# EAGLE library part SSW-115-02-S-D (library con-samtec)
THROUGH-HOLE .025" SQ POST SOCKET Source: Samtec SSW.pdf
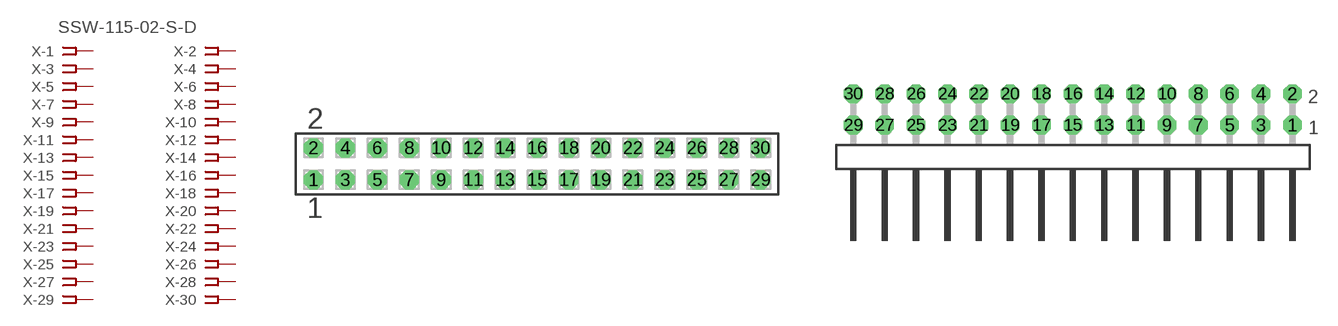
[diagram p184: symbol with the pads of SSW-115-02-S-D; footprints SSW-115-02-S-D, TSW-115-02-S-D-RA]

Designator prefix X; gates -1=FPINV -2=FPIN -3=FPIN -4=FPIN -5=FPIN -6=FPIN -7=FPIN -8=FPIN -9=FPIN -10=FPIN -11=FPIN -12=FPIN -13=FPIN -14=FPIN -15=FPIN -16=FPIN -17=FPIN -18=FPIN -19=FPIN -20=FPIN -21=FPIN -22=FPIN -23=FPIN -24=FPIN -25=FPIN -26=FPIN -27=FPIN -28=FPIN -29=FPIN -30=FPIN

## SSW-115-02-S-D (MPN: SSW-115-02-S-D; OC_FARNELL: unknown; OC_NEWARK: 11P9563)  [SSW-115-02-S-D]
1  -1:1  pas
2  -2:1  pas
3  -3:1  pas
4  -4:1  pas
5  -5:1  pas
6  -6:1  pas
7  -7:1  pas
8  -8:1  pas
9  -9:1  pas
10  -10:1  pas
11  -11:1  pas
12  -12:1  pas
13  -13:1  pas
14  -14:1  pas
15  -15:1  pas
16  -16:1  pas
17  -17:1  pas
18  -18:1  pas
19  -19:1  pas
20  -20:1  pas
21  -21:1  pas
22  -22:1  pas
23  -23:1  pas
24  -24:1  pas
25  -25:1  pas
26  -26:1  pas
27  -27:1  pas
28  -28:1  pas
29  -29:1  pas
30  -30:1  pas

## SSW-115-02-S-D-RA (MPN: SSW-115-02-S-D-RA; OC_FARNELL: unknown; OC_NEWARK: 18M6955)  [TSW-115-02-S-D-RA]
Pads as for SSW-115-02-S-D

## Footprint SSW-115-02-S-D (pad centres in mm)
THROUGH-HOLE .025" SQ POST SOCKET Source: Samtec SSW.pdf
drill 1 pad 1.5 octagon: 1 -17.78,-1.27; 2 -17.78,1.27; 3 -15.24,-1.27; 4 -15.24,1.27; 5 -12.7,-1.27; 6 -12.7,1.27; 7 -10.16,-1.27; 8 -10.16,1.27; 9 -7.62,-1.27; 10 -7.62,1.27; 11 -5.08,-1.27; 12 -5.08,1.27; 13 -2.54,-1.27; 14 -2.54,1.27; 15 0,-1.27; 16 0,1.27; 17 2.54,-1.27; 18 2.54,1.27; 19 5.08,-1.27; 20 5.08,1.27; 21 7.62,-1.27; 22 7.62,1.27; 23 10.16,-1.27; 24 10.16,1.27; 25 12.7,-1.27; 26 12.7,1.27; 27 15.24,-1.27; 28 15.24,1.27; 29 17.78,-1.27; 30 17.78,1.27

## Footprint TSW-115-02-S-D-RA (pad centres in mm)
THROUGH-HOLE .025" SQ POST HEADER Source: Samtec TSW.pdf
drill 1 pad 1.5 octagon: 1 17.78,1.524; 2 17.78,4.064; 3 15.24,1.524; 4 15.24,4.064; 5 12.7,1.524; 6 12.7,4.064; 7 10.16,1.524; 8 10.16,4.064; 9 7.62,1.524; 10 7.62,4.064; 11 5.08,1.524; 12 5.08,4.064; 13 2.54,1.524; 14 2.54,4.064; 15 0,1.524; 16 0,4.064; 17 -2.54,1.524; 18 -2.54,4.064; 19 -5.08,1.524; 20 -5.08,4.064; 21 -7.62,1.524; 22 -7.62,4.064; 23 -10.16,1.524; 24 -10.16,4.064; 25 -12.7,1.524; 26 -12.7,4.064; 27 -15.24,1.524; 28 -15.24,4.064; 29 -17.78,1.524; 30 -17.78,4.064